# EAGLE library part ADC122S706_PW_14 (library TIAnalog)
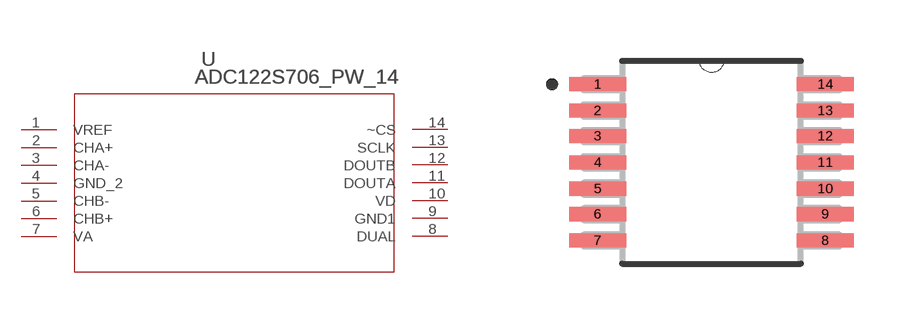
[diagram p2: symbol with the pads of MTC14; footprint MTC14]

Designator prefix -

## ADC122S706_PW_14 (MANUFACTURER_PART_NUMBER: adc122s706cimtnopb; VENDOR: National)  [MTC14]
1  VREF  pwr
2  CHA+  in
3  CHA-  in
4  GND_2  pwr
5  CHB-  in
6  CHB+  in
7  VA  pwr
8  DUAL  in
9  GND1  pwr
10  VD  pwr
11  DOUTA  out
12  DOUTB  out
13  SCLK  in
14  ~CS  in

## Footprint MTC14 (pad centres in mm)
smd 1.422 x 0.356: 1 -2.845,1.956; 2 -2.845,1.295; 3 -2.845,0.66; 4 -2.845,0; 5 -2.845,-0.66; 6 -2.845,-1.295; 7 -2.845,-1.956; 8 2.845,-1.956; 9 2.845,-1.295; 10 2.845,-0.66; 11 2.845,0; 12 2.845,0.66; 13 2.845,1.295; 14 2.845,1.956